# Altium footprint library ESP32-WROVER-IB.PcbLib: 1 footprints
Each footprint in its own frame and in the unit in brackets; x right, y up, seen from the top. Pads: shape width x height; smd on the part's side, far side on the other; paste and mask are expansions set on the pad; w line width, h text height; cw(c..) or ccw(c..) is an arc to the next point about the centre after c.
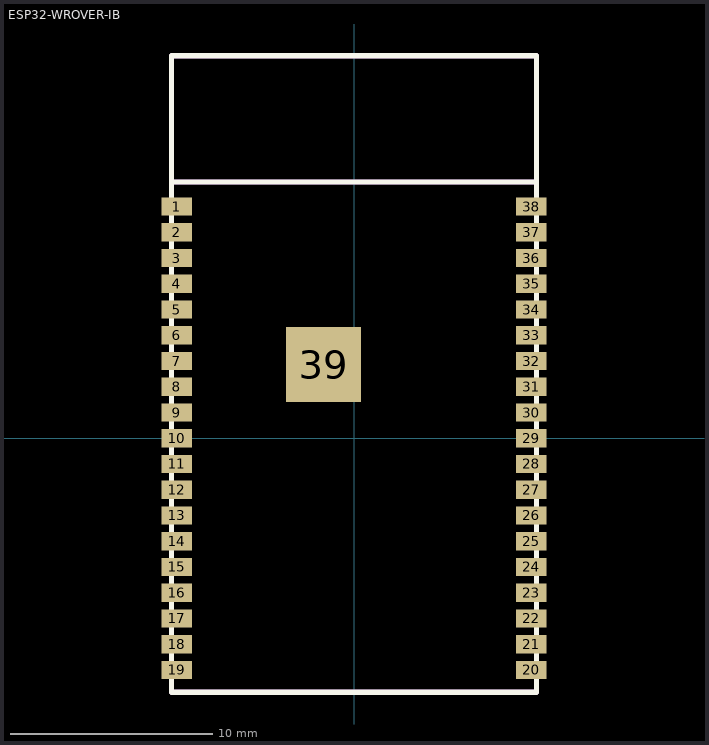
[diagram p0: the footprint, top view; thin cyan lines are the x and y axes]

## ESP32-WROVER-IB [mm] "Multiprotocol Modules SMD Module M213DH3264UH3Q0, ESP32-D0WD, 64Mbits PSRAM, 4 MB SPI flash, IPEX Antenna connector"
height 3.3
pads (39):
  rect 1.5x0.9 smd: 1(-8.75,11.43) 2(-8.75,10.16) 3(-8.75,8.89) 4(-8.75,7.62) 5(-8.75,6.35) 6(-8.75,5.08) 7(-8.75,3.81) 8(-8.75,2.54) 9(-8.75,1.27) 10(-8.75,0) 11(-8.75,-1.27) 12(-8.75,-2.54) 13(-8.75,-3.81) 14(-8.75,-5.08) 15(-8.75,-6.35) 16(-8.75,-7.62) 17(-8.75,-8.89) 18(-8.75,-10.16) 19(-8.75,-11.43) 20(8.75,-11.43) 21(8.75,-10.16) 22(8.75,-8.89) 23(8.75,-7.62) 24(8.75,-6.35) 25(8.75,-5.08) 26(8.75,-3.81) 27(8.75,-2.54) 28(8.75,-1.27) 29(8.75,0) 30(8.75,1.27) 31(8.75,2.54) 32(8.75,3.81) 33(8.75,5.08) 34(8.75,6.35) 35(8.75,7.62) 36(8.75,8.89) 37(8.75,10.16) 38(8.75,11.43)
  rect 3.7x3.7 smd: 39(-1.5,3.63)
Top Overlay:
  lines w0.254: -9,12.65 9,12.65 ; -9,-12.53 9,-12.53 9,18.87 -9,18.87 -9,-12.53
Mechanical 1:
  lines w0.254: -9,12.65 9,12.65 ; -9,-12.53 -9,18.87 9,18.87 9,-12.53 -9,-12.53
  text "ANTENNA" at -9,12.65 h3